# EAGLE library part TRHEI202-2 (library #PaJa_30)
Transformator - do DPS - 0,35 VA - 2x sek.
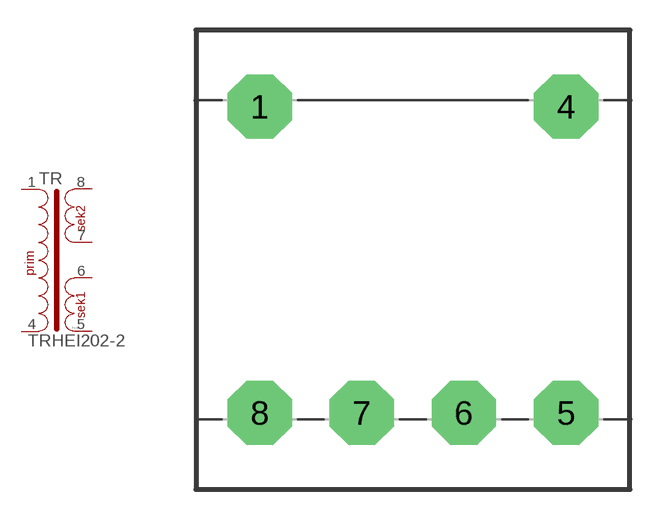
[diagram p25: symbol with the pads of TRHEI202; footprint TRHEI202]

Designator prefix TR

## TRHEI202-2  [TRHEI202]
1  P1  pas
4  P2  pas
5  S1-1  pas
6  S1-2  pas
7  S2-1  pas
8  S2-2  pas

## Footprint TRHEI202 (pad centres in mm)
drill 1.016 pad 3.2 octagon: 1 -7.62,7.62; 4 7.62,7.62; 5 7.62,-7.62; 6 2.54,-7.62; 7 -2.54,-7.62; 8 -7.62,-7.62